# Altium schematic symbol library DE0_NANO.Schlib: 1 symbol
Pins are listed as number, name and electrical type; pins without a type are passive.

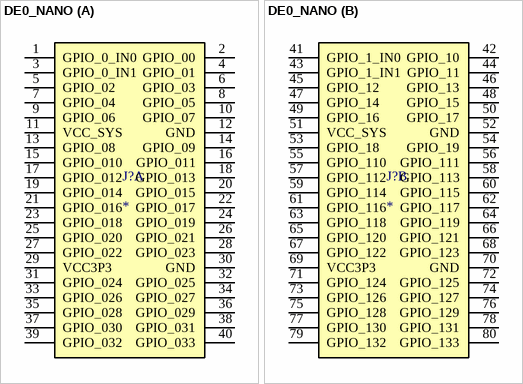
[diagram p0: symbol DE0_NANO]

## DE0_NANO
designator J?
Expansion headers for the DE0 Nano
part A pins: 1 GPIO_0_IN0, 2 GPIO_00, 3 GPIO_0_IN1, 4 GPIO_01, 5 GPIO_02, 6 GPIO_03, 7 GPIO_04, 8 GPIO_05, 9 GPIO_06, 10 GPIO_07, 11 VCC_SYS, 12 GND, 13 GPIO_08, 14 GPIO_09, 15 GPIO_010, 16 GPIO_011, 17 GPIO_012, 18 GPIO_013, 19 GPIO_014, 20 GPIO_015, 21 GPIO_016, 22 GPIO_017, 23 GPIO_018, 24 GPIO_019, 25 GPIO_020, 26 GPIO_021, 27 GPIO_022, 28 GPIO_023, 29 VCC3P3, 30 GND, 31 GPIO_024, 32 GPIO_025, 33 GPIO_026, 34 GPIO_027, 35 GPIO_028, 36 GPIO_029, 37 GPIO_030, 38 GPIO_031, 39 GPIO_032, 40 GPIO_033
part B pins: 41 GPIO_1_IN0, 42 GPIO_10, 43 GPIO_1_IN1, 44 GPIO_11, 45 GPIO_12, 46 GPIO_13, 47 GPIO_14, 48 GPIO_15, 49 GPIO_16, 50 GPIO_17, 51 VCC_SYS, 52 GND, 53 GPIO_18, 54 GPIO_19, 55 GPIO_110, 56 GPIO_111, 57 GPIO_112, 58 GPIO_113, 59 GPIO_114, 60 GPIO_115, 61 GPIO_116, 62 GPIO_117, 63 GPIO_118, 64 GPIO_119, 65 GPIO_120, 66 GPIO_121, 67 GPIO_122, 68 GPIO_123, 69 VCC3P3, 70 GND, 71 GPIO_124, 72 GPIO_125, 73 GPIO_126, 74 GPIO_127, 75 GPIO_128, 76 GPIO_129, 77 GPIO_130, 78 GPIO_131, 79 GPIO_132, 80 GPIO_133